# Altium footprint library MOSFETs.PcbLib: 9 footprints
Each footprint in its own frame and in the unit in brackets; x right, y up, seen from the top. Pads: shape width x height; smd on the part's side, far side on the other; paste and mask are expansions set on the pad; w line width, h text height; cw(c..) or ccw(c..) is an arc to the next point about the centre after c.
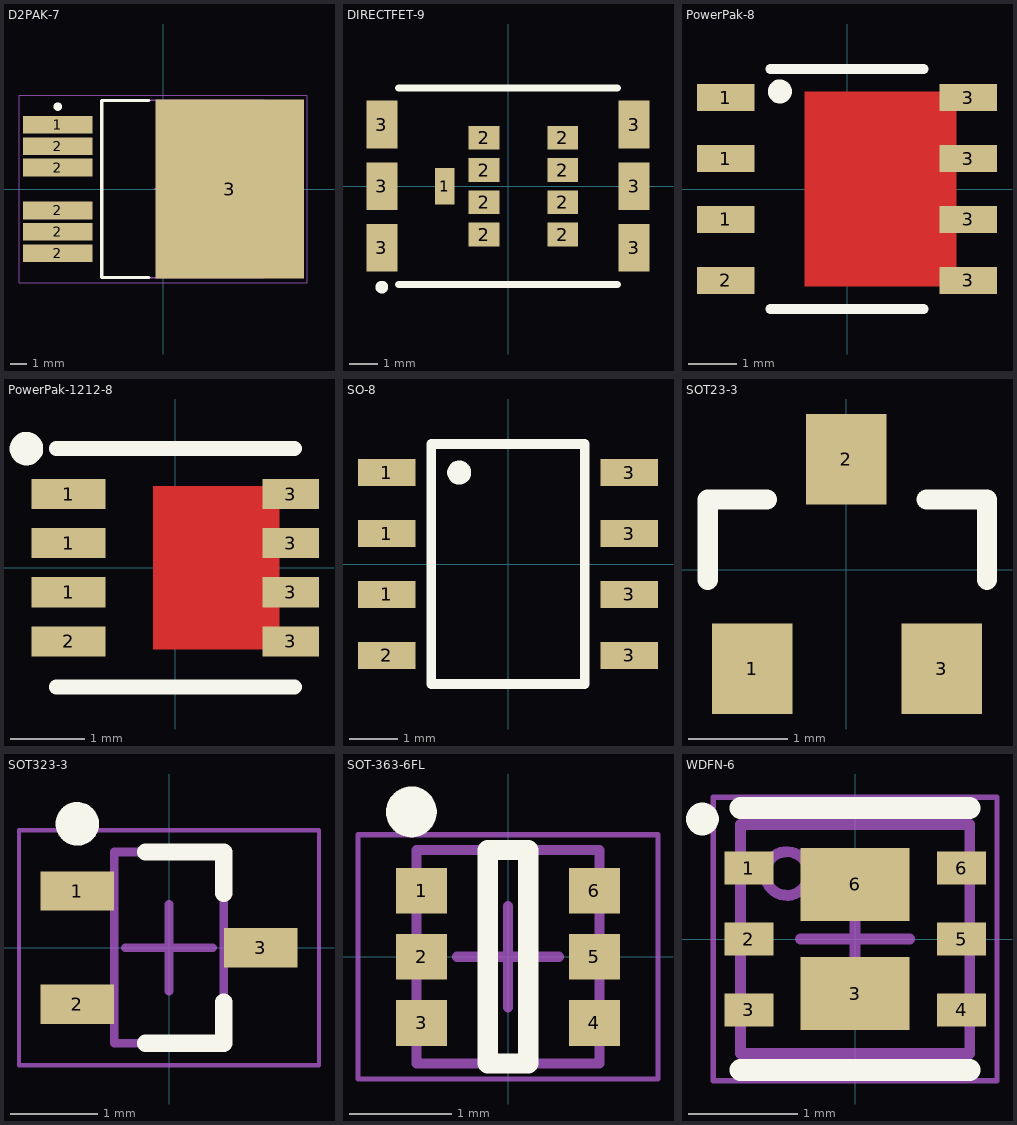
[diagram p0: the footprints below, top view; thin cyan lines are the x and y axes]

## D2PAK-7 [mm] "D2-PAK, 7-Pads, Body 7.93x8.63mm (max), IPC Medium Density"
height 4.83
pads (7):
  rect 4.15x1.05 smd mask+0.051: 1(-6.25,3.81) 2(-6.25,-3.81) 2(-6.25,-2.54) 2(-6.25,-1.27) 2(-6.25,1.27) 2(-6.25,2.54)
  rect 8.8x10.6 smd: 3(3.95,0)
Top Overlay:
  circle w0.25: c-6.25,4.885 r0.125
  lines w0.2: -0.85,-5.25 -3.65,-5.25 -3.65,5.25 -0.85,5.25
Mechanical 13:
  lines w0.1: -3.65,-5.275 -3.65,5.275 6,5.275 6,-5.275 -3.65,-5.275
Mechanical 15:
  lines w0.05: -8.55,-5.55 -8.55,5.55 8.55,5.55 8.55,-5.55 -8.55,-5.55
  lines w0.1: -0.5,0 0.5,0 ; 0,-0.5 0,0.5
3D body "IRF-S4010 7PPbF.stp": height 4.2, standoff 0, extent -7.004,-5 8,5

## DIRECTFET-9 [mm]
pads (15):
  rect 0.7x1.3 smd: 1(-2.25,0)
  rect 1.1x0.85 smd: 2(-0.85,-1.725) 2(-0.85,-0.575) 2(-0.85,0.575) 2(-0.85,1.725) 2(1.95,-1.725) 2(1.95,-0.575) 2(1.95,0.575) 2(1.95,1.725)
  rect 1.1x1.7 smd: 3(-4.5,-2.2) 3(-4.5,0) 3(-4.5,2.2) 3(4.5,-2.2) 3(4.5,0) 3(4.5,2.2)
Top Overlay:
  circle w0.254: c-4.5,-3.6 r0.1
  lines w0.254: -3.9,-3.5 3.9,-3.5 ; -3.9,3.5 3.9,3.5
3D body "User Library-DirectFET-L8_AUIRF7669L2.step": height 0.83, standoff 0, extent -4.575,-3.55 4.575,3.55

## PowerPak-8 [mm] "SOIC, 8-Leads, Body 4.90x3.90mm, Pitch 1.27mm, IPC Medium Density"
height 1.75
pads (8):
  rect 1.194x0.56 smd: 1(-2.528,-0.635) 1(-2.528,0.635) 1(-2.528,1.905) 2(-2.528,-1.905) 3(2.527,-1.905) 3(2.527,-0.635) 3(2.527,0.635) 3(2.527,1.905)
Top Layer:
  rectangle: -0.889,-2.032 2.286,2.032
Top Overlay:
  circle w0.25: c-1.397,2.032 r0.125
  lines w0.2: -1.6,-2.5 1.6,-2.5 ; -1.6,2.5 1.6,2.5
3D body "User Library-PowerPAK SO-8 (D).step": height 1.04, standoff 0, extent -3.075,-2.575 3.075,2.575

## PowerPak-1212-8 [mm] "SOIC, 8-Leads, Body 4.90x3.90mm, Pitch 1.27mm, IPC Medium Density"
height 1.75
pads (8):
  rect 0.99x0.405 smd: 1(-1.435,-0.33) 1(-1.435,0.33) 1(-1.435,0.99) 2(-1.435,-0.99)
  rect 0.76x0.405 smd: 3(1.55,-0.99) 3(1.55,-0.33) 3(1.55,0.33) 3(1.55,0.99)
Top Layer:
  rectangle: -0.3,-1.1 1.4,1.1
Top Overlay:
  circle w0.25: c-2,1.6 r0.1
  lines w0.2: -1.6,-1.6 1.6,-1.6 ; -1.6,1.6 1.6,1.6
3D body "PowerPAK 1212-8 Single Pad.step": height 1.04, standoff 0, extent -1.775,-1.8 1.775,1.75

## SO-8 [mm] "SOIC, 8-Leads, Body 4.90x3.90mm, Pitch 1.27mm, IPC Medium Density"
height 1.75
pads (8):
  rect 1.194x0.56 smd: 1(-2.528,-0.635) 1(-2.528,0.635) 1(-2.528,1.905) 2(-2.528,-1.905) 3(2.527,-1.905) 3(2.527,-0.635) 3(2.527,0.635) 3(2.527,1.905)
Top Overlay:
  circle w0.25: c-1.016,1.905 r0.125
  lines w0.2: -1.6,-2.5 -1.6,2.5 1.6,2.5 1.6,-2.5 -1.6,-2.5
3D body "SO8.STEP": height 1.75, standoff 0, extent -3.101,-2.515 3.099,2.485

## SOT23-3 [mil]
pads (3):
  rect 32x36 smd: 1(-37.4,-39.37) 2(0,44) 3(38,-39.37)
Top Overlay:
  lines w8: -55.12,-3.94 -55.12,28 -31.5,28 ; 32,28 56,28 56,-3.94
3D body "SOT-23.stp": height 39.37, standoff 0, extent -58.07,-50.2 60.04,50.2

## SOT323-3 [mm] "SOT23, 3-Leads, Body 2.00x2.10mm, Pitch 0.65mm, IPC Medium Density"
height 1
pads (3):
  rect 0.85x0.45 smd: 1(-1.055,0.65) 2(-1.055,-0.65) 3(1.055,0)
Top Overlay:
  circle w0.25: c-1.055,1.425 r0.125
  lines w0.2: -0.27,-1.1 0.63,-1.1 0.63,-0.625 ; -0.27,1.1 0.63,1.1 0.63,0.625
Mechanical 13:
  lines w0.1: -0.63,-1.1 0.63,-1.1 0.63,1.1 -0.63,1.1 -0.63,-1.1
Mechanical 15:
  lines w0.05: -1.725,-1.35 1.725,-1.35 1.725,1.35 -1.725,1.35 -1.725,-1.35
  lines w0.1: -0.5,0 0.5,0 ; 0,-0.5 0,0.5
3D body "User Library-SOT323 (SC70-3)-1.STEP": height 1.1, standoff 0, extent -1.122,-1.1 1.123,1.1

## SOT-363-6FL [mm] "SOTFL, 6-Leads, Body 2.00x2.10mm, Pitch 0.65mm, IPC Medium Density"
height 0.85
pads (6):
  rect 0.5x0.45 smd: 1(-0.85,0.65) 2(-0.85,0) 3(-0.85,-0.65) 4(0.85,-0.65) 5(0.85,0) 6(0.85,0.65)
Top Overlay:
  circle w0.25: c-0.95,1.425 r0.125
  lines w0.2: -0.2,-1.05 -0.2,1.05 0.2,1.05 0.2,-1.05 -0.2,-1.05
Mechanical 13:
  lines w0.1: -0.9,-1.05 0.9,-1.05 0.9,1.05 -0.9,1.05 -0.9,-1.05
Mechanical 15:
  lines w0.05: -1.475,-1.2 1.475,-1.2 1.475,1.2 -1.475,1.2 -1.475,-1.2
  lines w0.1: -0.5,0 0.5,0 ; 0,-0.5 0,0.5
3D body "SOTFL65P210X85-6N.step": height 0.85, standoff 0, extent -1.05,-1.048 1.05,1.048

## WDFN-6 [mm] "SON, 6-Leads, Body 2x2mm, Pitch 0.65mm, Thermal Pad 1.6x1mm, TI Recommended"
height 0.8
pads (8):
  rect 0.45x0.3 smd: 1(-0.975,0.65) 2(-0.975,0) 3(-0.975,-0.65) 4(0.975,-0.65) 5(0.975,0) 6(0.975,0.65)
  rect 1x0.67 smd: 3(0,-0.5) 6(0,0.5)
Top Overlay:
  circle w0.2: c-1.4,1.1 r0.05
  lines w0.2: -1.05,-1.2 -0.8,-1.2 1.05,-1.2 ; -1.05,1.2 0.8,1.2 1.05,1.2
Mechanical 13:
  circle w0.1: c-0.625,0.6 r0.2
  lines w0.1: -1.05,-1.05 -1.05,1.05 1.05,1.05 1.05,-1.05 -1.05,-1.05
Mechanical 15:
  lines w0.05: -1.3,-1.3 -1.3,1.3 1.3,1.3 1.3,-1.3 -1.3,-1.3
  lines w0.1: -0.5,0 0.5,0 ; 0,-0.5 0,0.5
3D body: height 0.81, standoff 0.5, extent -0.824,0.401 -0.426,0.799
3D body: height 0.8, standoff 0, extent -1.05,-1.05 1.05,1.05